# Altium footprint library BGA6C50P2X3_89X139X50.PcbLib: 1 footprints
Each footprint in its own frame and in the unit in brackets; x right, y up, seen from the top. Pads: shape width x height; smd on the part's side, far side on the other; paste and mask are expansions set on the pad; w line width, h text height; cw(c..) or ccw(c..) is an arc to the next point about the centre after c.
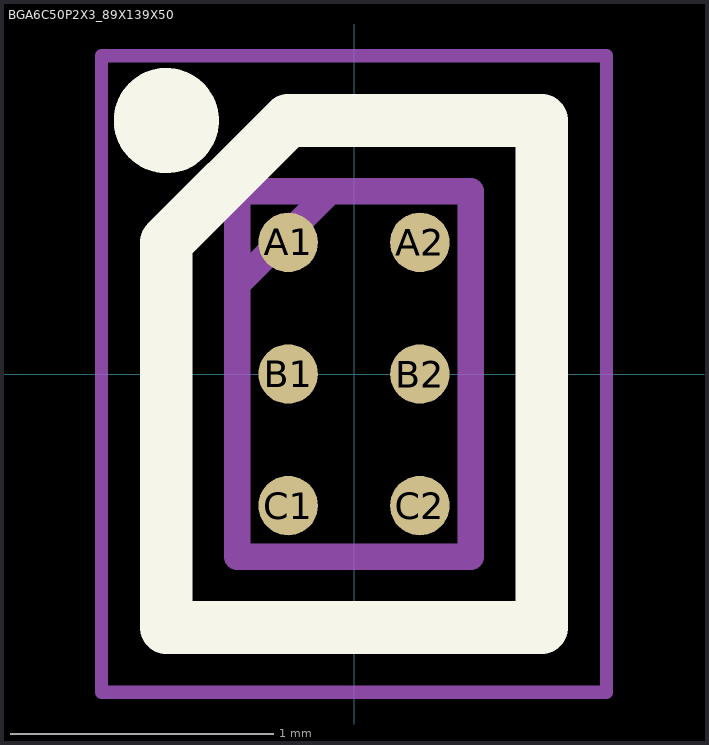
[diagram p0: the footprint, top view; thin cyan lines are the x and y axes]

## BGA6C50P2X3_89X139X50 [mm]
pads (6):
  round 0.226 smd: A1(-0.25,0.5) A2(0.25,0.5) B1(-0.25,0) B2(0.25,0) C1(-0.25,-0.5) C2(0.25,-0.5)
Top Overlay:
  circle w0.2: c-0.713,0.963 r0.1
  lines w0.2: -0.713,-0.963 0.713,-0.963 0.713,0.963 -0.25,0.963 -0.713,0.5 -0.713,-0.963
Mechanical 15:
  lines w0.1: -0.444,0.34 -0.09,0.694 ; -0.444,-0.694 0.444,-0.694 0.444,0.694 -0.444,0.694 -0.444,-0.694
Mechanical 20:
  lines w0.05: -0.959,-1.209 0.959,-1.209 0.959,1.209 -0.959,1.209 -0.959,-1.209
3D body "TS5A3159AYZPR.stp": height 0.5, standoff 0, extent -0.444,-0.694 0.444,0.694